# Altium footprint library Liv_Flo_Sign.PcbLib: 15 footprints
Each footprint in its own frame and in the unit in brackets; x right, y up, seen from the top. Pads: shape width x height; smd on the part's side, far side on the other; paste and mask are expansions set on the pad; w line width, h text height; cw(c..) or ccw(c..) is an arc to the next point about the centre after c.
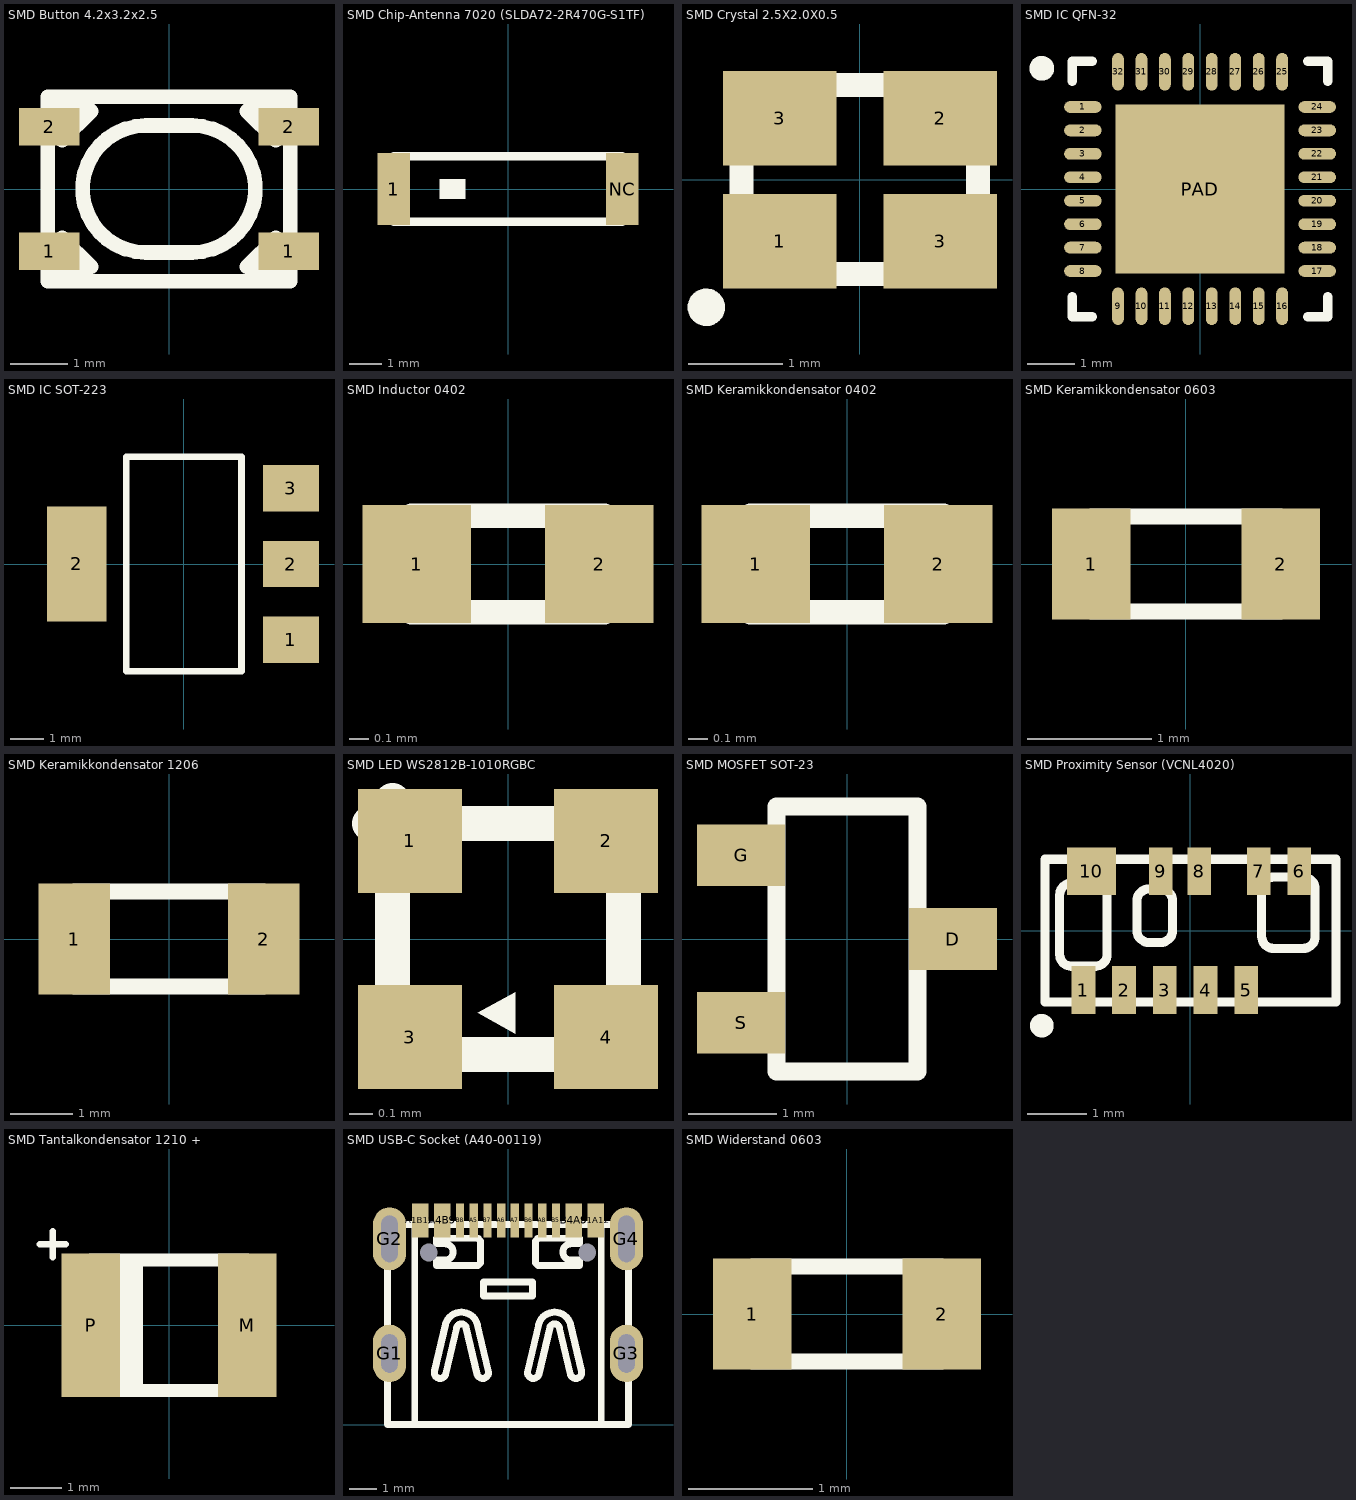
[diagram p0: the footprints below, top view; thin cyan lines are the x and y axes]

## SMD Button 4.2x3.2x2.5 [mm]
height 3
pads (4):
  rect 1.05x0.65 smd: 1(-2.075,-1.075) 1(2.075,-1.075) 2(-2.075,1.075) 2(2.075,1.075)
Top Overlay:
  lines w0.254: -2.1,-1.2 ccw(c-1.7,-1.2) -1.7,-1.6 ; -2.1,1.2 cw(c-1.7,1.2) -1.7,1.6 ; -1.6,-1.4 ccw(c-1.95,-1.4) -1.95,-1.05 -1.95,-0.95 ; -1.6,1.4 cw(c-1.95,1.4) -1.95,1.05 -1.95,0.95 ; -1.45,-1.45 -1.675,-1.45 -1.95,-1.175 -1.95,-0.95 ; -1.35,-1.35 -1.85,-0.85 -1.95,-0.95 ; 1.35,-1.35 1.85,-0.85 1.95,-0.95 ; 1.45,-1.45 1.675,-1.45 1.95,-1.175 1.95,-0.95 ; 1.6,-1.4 cw(c1.95,-1.4) 1.95,-1.05 1.95,-0.95 ; 1.6,1.4 ccw(c1.95,1.4) 1.95,1.05 1.95,0.95 ; 2.1,-1.2 cw(c1.7,-1.2) 1.7,-1.6 ; 2.1,1.2 ccw(c1.7,1.2) 1.7,1.6 ; -1.95,0.95 -1.95,1.175 -1.675,1.45 -1.45,1.45 -1.35,1.35 -1.85,0.85 -1.95,0.95 ; -1.7,-1.6 -1.7,-1.6 ; -1.7,1.6 -1.7,1.6 ; 1.7,-1.6 1.7,-1.6 ; 1.7,1.6 1.7,1.6 ; 1.95,0.95 1.95,1.175 1.675,1.45 1.45,1.45 1.35,1.35 1.85,0.85 1.95,0.95 ; -2.1,-1.6 0,-1.6 2.1,-1.6 2.1,0 2.1,1.6 0,1.6 -2.1,1.6 -2.1,0 -2.1,-1.6 ; -0.4,-1.1 cw(c-0.4,0) -0.4,1.1 0,1.1 0.4,1.1 cw(c0.4,0) 0.4,-1.1 0,-1.1 -0.4,-1.1
3D body "SKRPAC.x_t": height 2.5, standoff 0, extent -2.3,-1.6 2.3,1.6

## SMD Chip-Antenna 7020 (SLDA72-2R470G-S1TF) [mm]
pads (2):
  rect 1x2.2 smd: 1(-3.5,0) NC(3.5,0)
Top Overlay:
  rectangle: -2.1,-0.3 -1.3,0.3
  lines w0.254: -3.5,-1 -3.5,1 3.5,1 3.5,-1 -3.5,-1
3D body "SLDA72-2R470G-S1TF.x_t": height 1, standoff 0, extent -3.5,-1 3.5,1

## SMD Crystal 2.5X2.0X0.5 [mm] "SMD_LED_RED"
height 8.65
pads (4):
  rect 1.2x1 smd: 1(-0.85,-0.65) 2(0.85,0.65) 3(-0.85,0.65) 3(0.85,-0.65)
Top Overlay:
  circle w0.2: c-1.625,-1.35 r0.098
  lines w0.254: -1.25,-1 -1.25,1 1.25,1 1.25,-1 -1.25,-1
3D body "2520 SMD Crystal Oscillator.x_b": height 0.7, standoff 0, extent -1.25,-1 1.25,1

## SMD IC QFN-32 [mm] "QFN, 32-Leads, Body 5x5mm, Pitch 0.5mm, IPC Medium Density"
height 0.95
pads (33):
  oval 0.8x0.25 smd: 1(-2.5,1.75) 2(-2.5,1.25) 3(-2.5,0.75) 4(-2.5,0.25) 5(-2.5,-0.25) 6(-2.5,-0.75) 7(-2.5,-1.25) 8(-2.5,-1.75) 17(2.5,-1.75) 18(2.5,-1.25) 19(2.5,-0.75) 20(2.5,-0.25) 21(2.5,0.25) 22(2.5,0.75) 23(2.5,1.25) 24(2.5,1.75)
  oval 0.25x0.8 smd: 9(-1.75,-2.5) 10(-1.25,-2.5) 11(-0.75,-2.5) 12(-0.25,-2.5) 13(0.25,-2.5) 14(0.75,-2.5) 15(1.25,-2.5) 16(1.75,-2.5) 25(1.75,2.5) 26(1.25,2.5) 27(0.75,2.5) 28(0.25,2.5) 29(-0.25,2.5) 30(-0.75,2.5) 31(-1.25,2.5) 32(-1.75,2.5)
  rect 3.6x3.6 smd: PAD(0,0)
Top Overlay:
  circle w0.279: c-3.375,2.575 r0.124
  lines w0.2: -2.725,-2.3 -2.725,-2.725 -2.3,-2.725 ; -2.725,2.3 -2.725,2.725 -2.3,2.725 ; 2.3,-2.725 2.725,-2.725 2.725,-2.3 ; 2.3,2.725 2.725,2.725 2.725,2.3
Mechanical 15:
  lines w0.1: -0.5,0 0.5,0 ; 0,-0.5 0,0.5
3D body "User Library-qfn32-5x5.step": height 0.8, standoff 0, extent -2.51,-2.51 2.51,2.51

## SMD IC SOT-223 [mm] "SOT-223/SC-73; 4 Leads; Body 6.7 x 7.3 mm, inc. leads (LxW max)"
height 1.8
pads (4):
  rect 1.7x1.4 smd: 1(3.25,-2.3) 2(3.25,0) 3(3.25,2.3)
  rect 1.8x3.5 smd: 2(-3.25,0)
Top Overlay:
  lines w0.2: -1.75,-3.25 1.75,-3.25 1.75,3.25 -1.75,3.25 -1.75,-3.25
3D body "User Library-SOT-223-1.step": height 1.64, standoff -0.01, extent -3.5,-3.25 3.5,3.25

## SMD Inductor 0402 [mm]
pads (2):
  rect 0.57x0.62 smd: 1(-0.48,0) 2(0.48,0)
Top Overlay:
  lines w0.127: -0.508,-0.254 0.508,-0.254 0.508,0.254 -0.508,0.254 -0.508,-0.254
3D body "User Library-FB_1005.STEP": height 0.5, standoff 0, extent -0.5,-0.25 0.5,0.25

## SMD Keramikkondensator 0402 [mm]
pads (2):
  rect 0.57x0.62 smd: 1(-0.48,0) 2(0.48,0)
Top Overlay:
  lines w0.127: -0.508,-0.254 0.508,-0.254 0.508,0.254 -0.508,0.254 -0.508,-0.254
3D body "User Library-0402_Cap.STEP": height 0.51, standoff 0, extent -0.5,-0.25 0.5,0.25

## SMD Keramikkondensator 0603 [mil]
height 66.93
pads (2):
  rect 25x35 smd: 1(-30,0) 2(30,0)
Top Overlay:
  lines w5: -30,-15 30,-15 30,15 -30,15 -30,-15
3D body "User Library-0603_Cap.STEP": height 31.69, standoff 0, extent -31.49,-15.74 31.5,15.75

## SMD Keramikkondensator 1206 [mil]
pads (2):
  rect 45x70 smd: 1(-60,0) 2(60,0)
Top Overlay:
  lines w10: -60,-30 60,-30 60,30 -60,30 -60,-30
3D body "User Library-1206 SMD Capacitor.step": height 39.45, standoff 0, extent -62.98,-31.49 63,31.51

## SMD LED WS2812B-1010RGBC [mm]
height 8.65
pads (4):
  rect 0.45x0.45 smd: 1(-0.425,0.425) 2(0.425,0.425) 3(-0.425,-0.425) 4(0.425,-0.425)
Top Overlay:
  region: 0.031,-0.23 -0.131,-0.32 0.031,-0.41
  lines w0.152: -0.6,0.5 -0.5,0.6 ; -0.5,-0.5 0.5,-0.5 0.5,0.5 -0.3,0.5 -0.5,0.3 -0.5,-0.5
3D body "3D_PCB1_2024-09-20.x_t": height 0.81, standoff 0, extent -0.5,-0.5 0.5,0.5

## SMD MOSFET SOT-23 [mm]
pads (3):
  rect 1x0.7 smd: D(1.2,0) G(-1.2,0.95) S(-1.2,-0.95)
Top Overlay:
  lines w0.203: -0.8,-1.5 -0.8,1.5 0.8,1.5 0.8,-1.5 -0.8,-1.5
3D body "CircuitWorks-SOT-23.step": height 1.1, standoff 0, extent -1.301,-1.5 1.199,1.5

## SMD Proximity Sensor (VCNL4020) [mm]
pads (10):
  rect 0.4x0.8 smd: 1(-1.8,-1) 2(-1.115,-1) 3(-0.43,-1) 4(0.255,-1) 5(0.94,-1) 6(1.83,1) 7(1.15,1) 8(0.15,1) 9(-0.5,1)
  rect 0.83x0.8 smd: 10(-1.665,1)
Top Overlay:
  circle w0.2: c-2.5,-1.6 r0.098
  lines w0.152: -2.45,-1.2 -2.45,0 -2.45,1.2 ; -2.45,-1.2 0,-1.2 ; -2.45,-1.2 0,-1.2 ; -2.45,1.2 0,1.2 ; -2.45,1.2 0,1.2 ; 0,-1.2 2.45,-1.2 ; 0,-1.2 2.45,-1.2 ; 0,1.2 2.45,1.2 ; 0,1.2 2.45,1.2 ; 2.45,-1.2 2.45,0 2.45,1.2 ; -2.2,-0.4 ccw(c-2,-0.4) -2,-0.6 -1.6,-0.6 ccw(c-1.6,-0.4) -1.4,-0.4 -1.4,0.6 ccw(c-1.6,0.6) -1.6,0.8 -2,0.8 ccw(c-2,0.6) -2.2,0.6 -2.2,0.1 -2.2,-0.4 ; -0.9,0 ccw(c-0.7,0) -0.7,-0.2 -0.5,-0.2 ccw(c-0.5,0) -0.3,0 -0.3,0.5 ccw(c-0.5,0.5) -0.5,0.7 -0.7,0.7 ccw(c-0.7,0.5) -0.9,0.5 -0.9,0.2 -0.9,0 ; 1.2,-0.1 ccw(c1.4,-0.1) 1.4,-0.3 1.9,-0.3 ccw(c1.9,-0.1) 2.1,-0.1 2.1,0.4 2.1,0.7 ccw(c1.9,0.7) 1.9,0.9 1.4,0.9 ccw(c1.4,0.7) 1.2,0.7 1.2,-0.1
3D body "P-sensor.x_t": height 0.83, standoff 0, extent -2.45,-1.2 2.45,1.2

## SMD Tantalkondensator 1210 + [mil]
pads (2):
  rect 45x110 smd: M(60,0) P(-60,0)
Top Overlay:
  rectangle: -60,-50 -20,50
  lines w5: -99,62 -79,62 ; -89,52 -89,72
  lines w10: -60,-50 60,-50 60,50 -60,50 -60,-50
3D body "User Library-AVX_BCASE.x_b": height 79.92, standoff 0, extent -72.83,-57.67 72.84,57.68

## SMD USB-C Socket (A40-00119) [mm]
pads (18):
  rect 0.6x1.25 smd: A1B12(-3.2,7.45) A4B9(-2.4,7.45) B1A12(3.2,7.45) B4A9(2.4,7.45)
  rect 0.3x1.25 smd: A5(-1.25,7.45) A6(-0.25,7.45) A7(0.25,7.45) A8(1.25,7.45) B5(1.75,7.45) B6(0.75,7.45) B7(-0.75,7.45) B8(-1.75,7.45)
  oval 1.2x2.1 hole 0.6 slot 1.4 at 90 deg: G1(-4.32,2.6) G3(4.32,2.6)
  oval 1.2x2.3 hole 0.6 slot 1.7 at 90 deg: G2(-4.32,6.78) G4(4.32,6.78)
  round 0 hole 0.65 unplated: NC(-2.89,6.28) NC(2.89,6.28)
Top Overlay:
  lines w0.254: -3.5,0 -3.4,0 -3.4,7.3 ; 3.4,7.3 3.4,0 3.5,0 ; -4.4,0 -4.375,0 0,0 4.375,0 4.4,0 4.4,7.3 0,7.3 -4.4,7.3 -4.4,0 ; -2.68,1.965 ccw(c-2.476,1.902) -2.27,1.85 -1.871,3.547 cw(c-1.7,3.5) -1.7,3.677 cw(c-1.7,3.5) -1.529,3.547 -1.13,1.85 ccw(c-0.924,1.902) -0.72,1.965 -1.12,3.662 ccw(c-1.7,3.5) -1.7,4.102 ccw(c-1.7,3.5) -2.28,3.662 -2.68,1.965 ; -2.6,5.8 -2.6,6 -2.3,6 ccw(c-2.3,6.3) -2,6.3 ccw(c-2.3,6.3) -2.3,6.6 -2.6,6.6 -2.6,6.8 -1.1,6.8 -1,6.7 -1,5.9 -1.1,5.8 -2.6,5.8 ; -0.9,4.7 -0.9,5.2 0,5.2 0.9,5.2 0.9,4.7 0,4.7 -0.9,4.7 ; 0.72,1.965 ccw(c0.924,1.902) 1.13,1.85 1.529,3.547 cw(c1.7,3.5) 1.7,3.677 cw(c1.7,3.5) 1.871,3.547 2.27,1.85 ccw(c2.476,1.902) 2.68,1.965 2.28,3.662 ccw(c1.7,3.5) 1.7,4.102 ccw(c1.7,3.5) 1.12,3.662 0.72,1.965 ; 1,5.9 1.1,5.8 2.6,5.8 2.6,6 2.3,6 cw(c2.3,6.3) 2,6.3 cw(c2.3,6.3) 2.3,6.6 2.6,6.6 2.6,6.8 1.1,6.8 1,6.7 1,5.9
3D body "USB - C.x_t": height 3.26, standoff -1, extent -4.475,0 4.475,7.75

## SMD Widerstand 0603 [mil]
height 66.93
pads (2):
  rect 25x35 smd: 1(-30,0) 2(30,0)
Top Overlay:
  lines w5: -30,-15 30,-15 30,15 -30,15 -30,-15
3D body "User Library-Panasonic0603.step": height 17.72, standoff 0, extent -31.5,-16.14 31.5,16.14